# EAGLE library part КМ155ИД1 (library tsyklon-labs)
BCD to decimal decoder
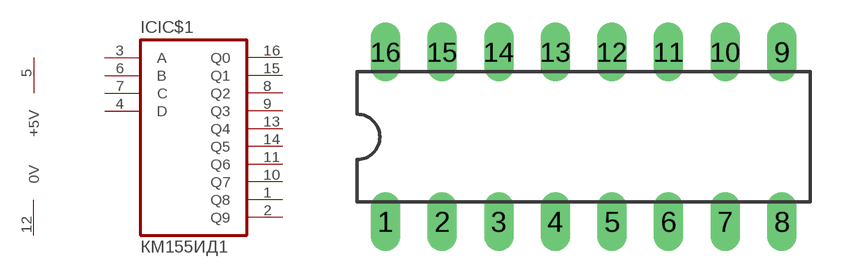
[diagram p1: symbol with the pads of DIL16; footprint DIL16]

Designator prefix IC; gates IC$1=74141 SUPPLY=SUPPLY

## КМ155ИД1-DIP16  [DIL16]
1  IC$1:Q8  out
2  IC$1:Q9  out
3  IC$1:A  in
4  IC$1:D  in
5  SUPPLY:+5V  sup
6  IC$1:B  in
7  IC$1:C  in
8  IC$1:Q2  out
9  IC$1:Q3  out
10  IC$1:Q7  out
11  IC$1:Q6  out
12  SUPPLY:0V  sup
13  IC$1:Q4  out
14  IC$1:Q5  out
15  IC$1:Q1  out
16  IC$1:Q0  out

## Footprint DIL16 (pad centres in mm)
DIL16
drill 0.813 long: 1 -8.89,-3.81; 2 -6.35,-3.81; 3 -3.81,-3.81; 4 -1.27,-3.81; 5 1.27,-3.81; 6 3.81,-3.81; 7 6.35,-3.81; 8 8.89,-3.81; 9 8.89,3.81; 10 6.35,3.81; 11 3.81,3.81; 12 1.27,3.81; 13 -1.27,3.81; 14 -3.81,3.81; 15 -6.35,3.81; 16 -8.89,3.81